# EAGLE library part GPS (library GoatFinder)
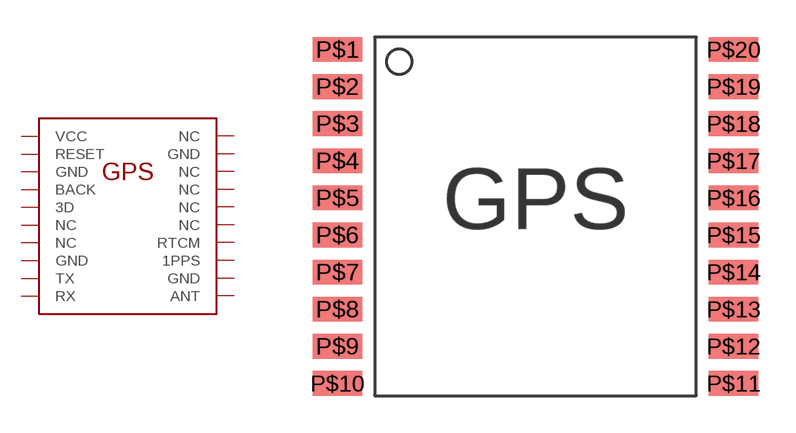
[diagram p2: symbol with the pads of GPS; footprint GPS]

Designator prefix -

## GPS  [GPS]
P$1  VCC
P$2  RESET
P$3  GND
P$4  BACK
P$5  3D
P$6  NC
P$7  NC
P$8  GND
P$9  TX
P$10  RX
P$11  ANT
P$12  GND
P$13  1PPS
P$14  RTCM
P$15  NC
P$16  NC
P$17  NC
P$18  NC
P$19  GND
P$20  NC

## Footprint GPS (pad centres in mm)
smd 2 x 1: P$1 -7.62,2.54; P$2 -7.62,1.04; P$3 -7.62,-0.46; P$4 -7.62,-1.96; P$5 -7.62,-3.46; P$6 -7.62,-4.96; P$7 -7.62,-6.46; P$8 -7.62,-7.96; P$9 -7.62,-9.46; P$10 -7.62,-10.96; P$11 8.38,-10.96; P$12 8.38,-9.46; P$13 8.38,-7.96; P$14 8.38,-6.46; P$15 8.38,-4.96; P$16 8.38,-3.46; P$17 8.38,-1.96; P$18 8.38,-0.46; P$19 8.38,1.04; P$20 8.38,2.54